# Altium footprint library adafruit.PCBLIB: 624 footprints (part 8 of 39)
Each footprint in its own frame and in the unit in brackets; x right, y up, seen from the top. Pads: shape width x height; smd on the part's side, far side on the other; paste and mask are expansions set on the pad; w line width, h text height; cw(c..) or ccw(c..) is an arc to the next point about the centre after c.
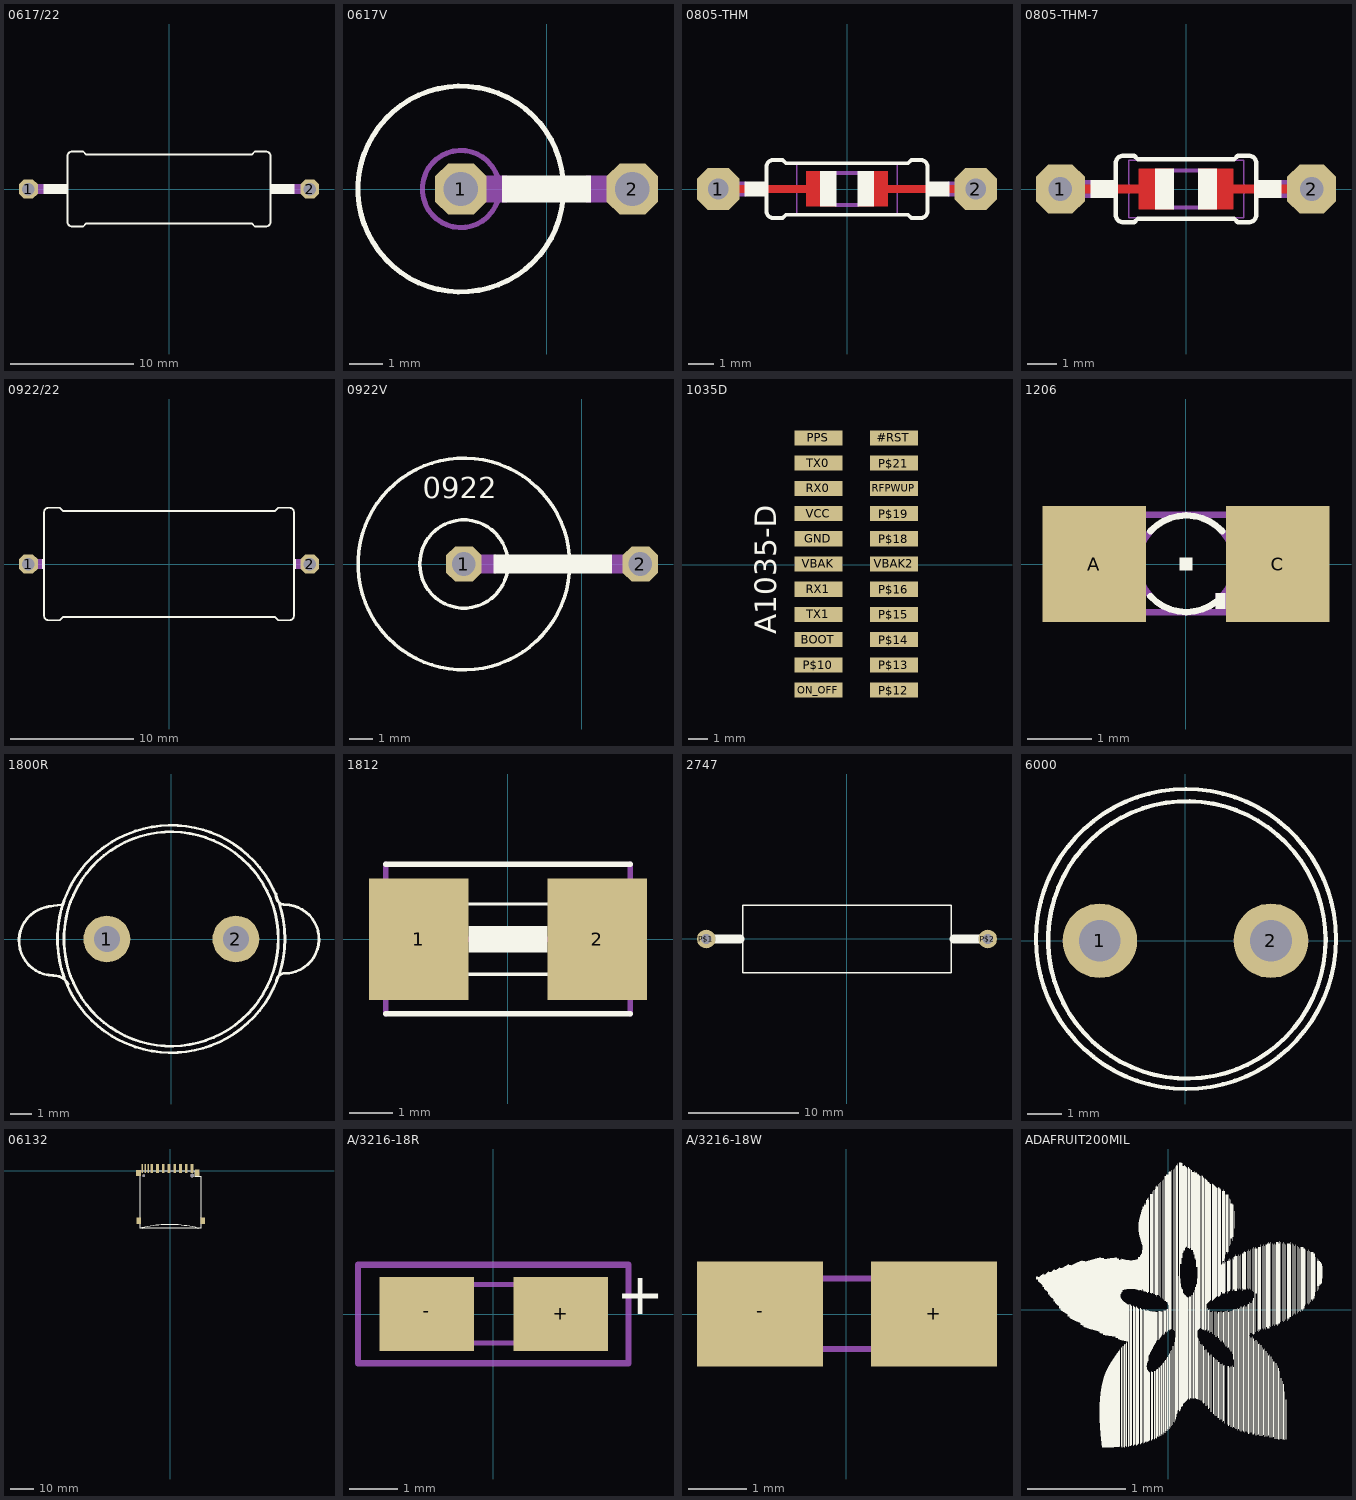
[diagram p7: the footprints below, top view; thin cyan lines are the x and y axes]

## 0617/22 [mil]
pads (2):
  oct 60x60 hole 40: 1(-450,0) 2(450,0)
Top Overlay:
  rectangle: -401,-16 -325,16
  rectangle: 325,-16 401,16
  lines w6: -325,-105 -325,105 cw(c-310,105) -310,120 -275,120 -265,110 265,110 275,120 310,120 cw(c310,105) 325,105 325,-105 cw(c310,-105) 310,-120 275,-120 265,-110 -265,-110 -275,-120 -310,-120 cw(c-310,-105) -325,-105
Mechanical 16:
  lines w32: -450,0 -405,0 ; 405,0 450,0

## 0617V [mil]
pads (2):
  oct 60x60 hole 40: 1(-100,0) 2(100,0)
Top Overlay:
  circle w6: c-100,0 r120
  rectangle: -52,-16 52,16
Mechanical 16:
  circle w6: c-100,0 r45
  lines w32: -100,0 -50,0 ; 50,0 100,0

## 0805-THM [mil]
pads (2):
  oct 66x66 hole 32: 1(-200,0) 2(200,0)
Top Layer:
  rectangle: -63.99,-27.56 -16.75,28
  rectangle: 17,-27.56 64,28
  lines w12: -177.17,0 -43.31,0 ; 40,0 201,0
Top Overlay:
  rectangle: 125,-12 159,12
  rectangle: -159,-12 -125,12
  rectangle: 16,-27.5 42,28
  rectangle: -42,-27.5 -16.41,28
  lines w6: -125,-35 ccw(c-115,-35) -115,-45 -100,-45 -95,-40 95,-40 100,-45 115,-45 ccw(c115,-35) 125,-35 125,35 ccw(c115,35) 115,45 100,45 95,40 -95,40 -100,45 -115,45 ccw(c-115,35) -125,35 -125,-35
Top Paste:
  rectangle: -63.99,-27.56 -16.75,28
  rectangle: 17,-27.56 64,28
Top Solder:
  rectangle: -67.93,-31.5 -12.81,32
  rectangle: 13,-31.5 68,32
Mechanical 16:
  lines w6: -16.14,-25 17,-25 ; -16.14,25 17,25
  lines w24: -200,0 -160,0 ; 160,0 200,0
Mechanical 27:
  lines w2: -77.68,-38.7 78,-38.7 78,39 -77.68,39 -77.68,-38.7

## 0805-THM-7 [mil]
pads (2):
  oct 66x66 hole 32: 1(-170,0) 2(170,0)
Top Layer:
  rectangle: -63.99,-27.56 -16.75,28
  rectangle: 17,-27.56 64,28
  lines w12: -147.17,0 -43.31,0 ; 40,0 171,0
Top Overlay:
  rectangle: 95,-12 129,12
  rectangle: -129,-12 -95,12
  rectangle: 16,-27.5 42,28
  rectangle: -42,-27.5 -16.41,28
  lines w6: -95,-35 ccw(c-85,-35) -85,-45 -70,-45 -65,-40 65,-40 70,-45 85,-45 ccw(c85,-35) 95,-35 95,35 ccw(c85,35) 85,45 70,45 65,40 -65,40 -70,45 -85,45 ccw(c-85,35) -95,35 -95,-35
Top Paste:
  rectangle: -64.57,-27.56 -16.14,28
  rectangle: 16,-27.56 65,28
Top Solder:
  rectangle: -67.93,-31.5 -12.81,32
  rectangle: 13,-31.5 68,32
Mechanical 16:
  lines w6: -16.14,-25 17,-25 ; -16.14,25 17,25
  lines w24: -170,0 -130,0 ; 130,0 170,0
Mechanical 27:
  lines w2: -77.68,-38.7 78,-38.7 78,39 -77.68,39 -77.68,-38.7

## 0922/22 [mil]
pads (2):
  oct 60x60 hole 40: 1(-450,0) 2(450,0)
Top Overlay:
  rectangle: 400,-16 406,16
  rectangle: -406,-16 -400,16
  lines w6: -400,-165 -400,165 cw(c-385,165) -385,180 -350,180 -340,170 340,170 350,180 385,180 cw(c385,165) 400,165 400,-165 cw(c385,-165) 385,-180 350,-180 340,-170 -340,-170 -350,-180 -385,-180 cw(c-385,-165) -400,-165
Mechanical 16:
  rectangle: -422,-16 -400,16
  rectangle: 400,-16 422,16
  lines w32: -450,0 -425,0 ; 425,0 450,0

## 0922V [mil]
pads (2):
  oct 60x60 hole 40: 1(-200,0) 2(100,0)
Top Overlay:
  circle w6: c-200,0 r180
  circle w6: c-200,0 r75
  rectangle: -150,-16 52,16
  text "0922" at -270,100 h62
Mechanical 16:
  lines w32: -200,0 -150,0 ; 55,0 100,0

## 1035D [mil]
pads (22):
  rect 95x30 smd: #RST(668,252) BOOT(518,-148.43) GND(518,52) ON_OFF(518,-248.43) P$10(518,-198.43) P$12(668,-248.43) P$13(668,-198.43) P$14(668,-148.43) P$15(668,-98.43) P$16(668,-48.43) P$18(668,52) P$19(668,102) P$21(668,202) PPS(518,252) RFPWUP(668,152) RX0(518,152) RX1(518,-48.43) TX0(518,202) TX1(518,-98.43) VBAK(518,2) VBAK2(668,2) VCC(518,102)
Top Overlay:
  text "A1035-D" at 434,-137.8 h42.5

## 1206 [mil]
pads (2):
  rect 63x71 smd: A(-55.98,0) C(56,0)
Top Overlay:
  rectangle: -3.94,-3.94 4,4
  rectangle: 18,-27.56 24,-17.72
  lines w4: -21.65,-19.69 ccw(c0.17,0.16) 22,-19.69 ; -21.65,20 cw(c0.17,0.16) 22,20
Mechanical 16:
  rectangle: 18,-27.56 32,-17.72
  rectangle: 32,-27.56 36,20
  rectangle: 32,22 36,28
  rectangle: -35.43,-27.56 -31.5,20
  rectangle: -35.43,22 -31.5,28
  lines w4: -21.65,-19.69 cw(c0.17,0.16) -21.65,20 ; 22,-19.69 ccw(c0.17,0.16) 22,20 ; -61.02,-29.53 62,-29.53 62,30 -61.02,30 -61.02,-29.53

## 1800R [mil]
pads (2):
  round 86 hole 48: 1(-118.11,0) 2(119,0)
Top Overlay:
  circle w5: c0,0 r197
  circle w5: c0,0 r209
  lines w5: -224.41,60 -200.79,63 ; -220.47,60 ccw(c-216.06,-3.39) -216.54,-66.93 cw(c-216.9,-99.55) -188.98,-82.68 ; 193,-78.74 cw(c208.87,-78.87) 209,-62.99 217,-62.99 ; 193,83 ccw(c209.12,79.5) 209,63 cw(c208.57,-0.07) 213,-62.99

## 1812 [mil]
pads (2):
  rect 90x110 smd: 1(-80.55,0) 2(81,0)
Top Overlay:
  rectangle: -35.43,-11.81 36,12
  rectangle: -23.62,-11.81 20,12
  lines w3: -62.99,-31.5 63,-31.5 ; -62.99,32 63,32
  lines w5: -110.25,-67.37 111,-67.37 ; -110.25,68 111,68
Mechanical 16:
  lines w3: -62.99,-31.5 -62.99,32 ; 63,-31.5 63,32
  lines w5: -110.25,-67.37 -110.25,68 ; -90.55,0 95,0 ; -66.93,0 67,0 ; 111,-67.37 111,68

## 2747 [mil]
pads (2):
  round 66 hole 36: P$1(-500,0) P$2(500,0)
Top Overlay:
  lines w5: -370,-120 370,-120 370,120 -370,120 -370,-120
  lines w32: -490,0 -380,0 ; 380,0 490,0

## 6000 [mil]
pads (2):
  round 86 hole 48: 1(-98.43,0) 2(99,0)
Top Overlay:
  circle w5: c1,2 r173
  circle w5: c2,1 r160

## 06132 [mil]
pads (17):
  round 44 hole 44: 1(-456.69,-82.68)
  rect 48x158 smd: 1(272,36) 2(174,36) 3(75,36) 4(-23.62,36) 5(-122.05,36) 6(-220.47,36) 7(-318.9,36) 9(371,36)
  round 63 hole 63: 1(375,-82.68)
  rect 28x158 smd: 8(-381.89,36) CD(-433.07,36) WP(-480.31,36)
  rect 79x111 smd: GP(-543.31,-858.27) GP2(556,-858.27) GP3(461,-35.43) GP4(-547.24,-39.37)
Top Overlay:
  lines w5: -484.25,-988.19 481,-988.19 ; -484.25,-988.19 -519.68,-988.19 -519.68,0 418,0 418,-98.43 520,-98.43 524,-988.19 481,-988.19 ; -484.25,-988.19 -488.19,-976.38 cw(c-23.93,-2974.78) 473,-984.25 481,-988.19

## A/3216-18R [mil]
pads (2):
  rect 77x60 smd: +(55,0) -(-54.13,0)
Top Overlay:
  text "+" at 100,0 h34
Mechanical 16:
  rectangle: -62.99,-23.62 -58.07,24
  rectangle: 59,-23.62 63,24
  rectangle: 32,-24.61 44,25
  lines w4: -57.09,-23.62 58,-23.62 58,24 -57.09,24 -57.09,-23.62
Mechanical 27:
  lines w5: -110,-40 110,-40 110,40 -110,40 -110,-40

## A/3216-18W [mil]
pads (2):
  rect 85x71 smd: +(59,0) -(-58.07,0)
Mechanical 16:
  rectangle: -62.99,-23.62 -58.07,24
  rectangle: 59,-23.62 63,24
  rectangle: 32,-24.61 44,25
  lines w4: -57.09,-23.62 58,-23.62 58,24 -57.09,24 -57.09,-23.62

## ADAFRUIT200MIL [mil]
Top Overlay:
  drawing of 2202 lines, arcs and shapes, not listed